# Altium footprint library Display.PcbLib: 7 footprints
Each footprint in its own frame and in the unit in brackets; x right, y up, seen from the top. Pads: shape width x height; smd on the part's side, far side on the other; paste and mask are expansions set on the pad; w line width, h text height; cw(c..) or ccw(c..) is an arc to the next point about the centre after c.
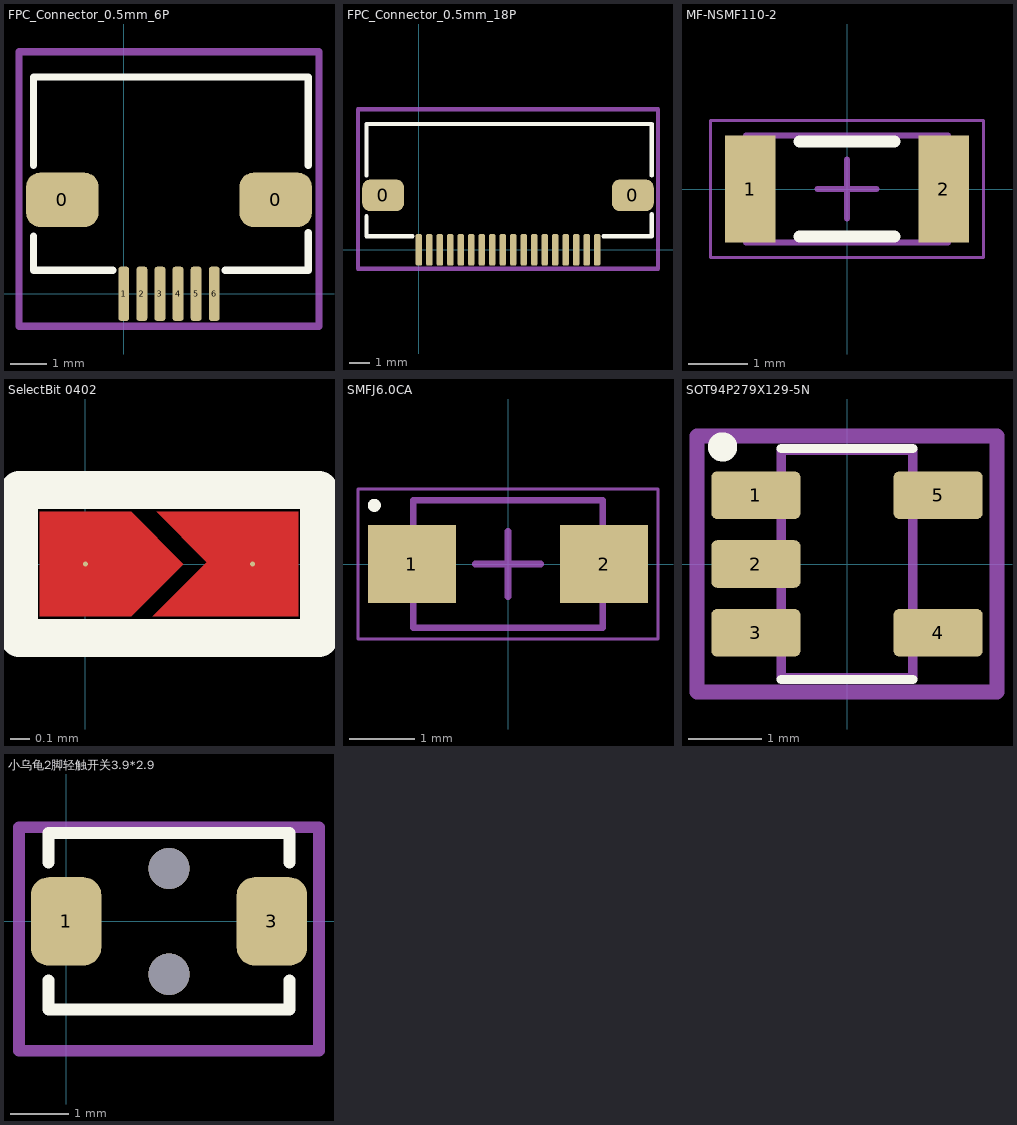
[diagram p0: the footprints below, top view; thin cyan lines are the x and y axes]

## FPC_Connector_0.5mm_6P [mm]
pads (8):
  rrect50% 2x1.5 smd: 0(-1.7,2.6) 0(4.2,2.6)
  rrect50% 0.3x1.5 smd mask+0: 1(0,0) 2(0.5,0) 3(1,0) 4(1.5,0) 5(2,0) 6(2.5,0)
Top Overlay:
  lines w0.2: -2.5,1.6 -2.5,0.65 -0.3,0.65 ; -2.5,3.55 -2.5,6 5.1,6 5.1,3.55 ; 2.8,0.65 5.1,0.65 5.1,1.7
Top Courtyard:
  lines w0.2: -2.9,-0.9 5.4,-0.9 5.4,6.7 -2.9,6.7 -2.9,-0.9
3D body "FPC_Connector_0.5mm_6P_Bottom.stp": height 2.25, standoff 0, extent -2.3,0.05 4.8,6.55

## FPC_Connector_0.5mm_18P [mm]
pads (20):
  rrect50% 2x1.5 smd: 0(-1.7,2.6) 0(10.2,2.6)
  rrect50% 0.3x1.5 smd mask+0: 1(0,0) 2(0.5,0) 3(1,0) 4(1.5,0) 5(2,0) 6(2.5,0) 7(3,0) 8(3.5,0) 9(4,0) 10(4.5,0) 11(5,0) 12(5.5,0) 13(6,0) 14(6.5,0) 15(7,0) 16(7.5,0) 17(8,0) 18(8.5,0)
Top Overlay:
  lines w0.2: -2.5,1.6 -2.5,0.65 -0.3,0.65 ; -2.5,3.55 -2.5,6 11.1,6 11.1,3.55 ; 8.8,0.65 11.1,0.65 11.1,1.7
Top Courtyard:
  lines w0.2: -2.9,-0.9 11.4,-0.9 11.4,6.7 -2.9,6.7 -2.9,-0.9
3D body "FPC_Connector_0.5mm_18P_Bottom.stp": height 2.25, standoff 0, extent -2.3,0.05 10.8,6.55

## MF-NSMF110-2 [mm] "贴片自恢复保险丝1206"
height 0.7
pads (2):
  rect 0.85x1.8 smd: 1(-1.625,0) 2(1.625,0)
Top Overlay:
  lines w0.2: -0.8,-0.8 0.8,-0.8 ; -0.8,0.8 0.8,0.8
Mechanical 13:
  lines w0.1: -1.7,-0.9 1.7,-0.9 1.7,0.9 -1.7,0.9 -1.7,-0.9
Top Courtyard:
  lines w0.05: -2.3,-1.15 2.3,-1.15 2.3,1.15 -2.3,1.15 -2.3,-1.15
  lines w0.1: -0.5,0 0.5,0 ; 0,-0.5 0,0.5
3D body "PPTC1206.stp": height 0.71, standoff -0.02, extent -1.675,-0.825 1.675,0.825

## SelectBit 0402 [mil]
pads (2):
  round 1 smd mask+3.94: 1(0,0) 2(34.65,0)
Top Layer:
  region: 13.98,-10.83 44.09,-10.83 44.09,10.83 14.76,10.83 25.2,0.39
  region: 9.45,10.83 -9.45,10.83 -9.45,-10.83 9.45,-10.83 20.28,0
Top Overlay:
  lines w7.87: -13.78,-15.35 48.43,-15.35 48.43,15.35 -13.78,15.35 -13.78,-15.35

## SMFJ6.0CA [mm] "贴片TVS瞬变抑制二极管 6V/双向"
height 1.4
pads (2):
  rect 1.35x1.2 smd: 1(-1.475,0) 2(1.475,0)
Top Overlay:
  circle w0.1: c-2.05,0.9 r0.05
Mechanical 13:
  lines w0.1: -1.45,-0.975 1.45,-0.975 1.45,0.975 -1.45,0.975 -1.45,-0.975
Top Courtyard:
  lines w0.05: -2.3,-1.15 2.3,-1.15 2.3,1.15 -2.3,1.15 -2.3,-1.15
  lines w0.1: -0.5,0 0.5,0 ; 0,-0.5 0,0.5
3D body: height 1.4, standoff 0, extent -1.45,-0.975 1.45,0.975

## SOT94P279X129-5N [mm]
pads (5):
  rrect25% 1.22x0.65 smd: 1(-1.245,0.94) 2(-1.245,0) 3(-1.245,-0.94) 4(1.245,-0.94) 5(1.245,0.94)
Top Overlay:
  circle w0.2: c-1.7,1.6 r0.1
  lines w0.127: -0.9,-1.579 0.9,-1.579 ; -0.9,1.579 0.9,1.579
Mechanical 13:
  lines w0.127: -0.9,-1.55 0.9,-1.55 0.9,1.55 -0.9,1.55 -0.9,-1.55
Top Courtyard:
  lines w0.2: -2.05,-1.75 2.05,-1.75 2.05,1.75 -2.05,1.75 -2.05,-1.75
3D body "RT9013-33GB.STEP": height 1.3, standoff 0, extent -1.397,-1.448 1.397,1.448

## 小乌龟2脚轻触开关3.9*2.9 [mm] "小乌龟2脚带固定柱3.9*2.9贴片侧按轻触开关按键微动开关"
pads (2):
  rrect50% 1.2x1.5 smd: 1(0,0) 3(3.5,0)
via 1.75,0.9 diameter 0.7 hole 0.7
via 1.75,-0.9 diameter 0.7 hole 0.7
Top Overlay:
  lines w0.2: -0.3,-1 -0.3,-1.5 3.8,-1.5 3.8,-1 ; -0.3,1 -0.3,1.5 3.8,1.5 3.8,1
Top Courtyard:
  lines w0.2: -0.8,-2.2 4.3,-2.2 4.3,1.6 -0.8,1.6 -0.8,-2.2
3D body "switches_thb01sl-_251_-f1_2_b_colored.STEP": height 1.45, standoff -0.55, extent -0.65,-2.1 4.15,1.45